# EAGLE library part PINHD_2X10_SMD_2.00 (library isb_connectors)
2x10-polige Stiftleiste, SMD, RM 2.00
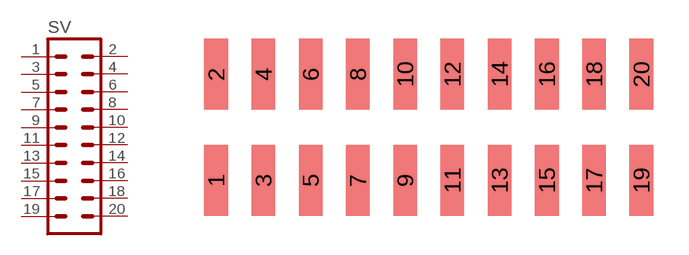
[diagram p4: symbol with the pads of SL_2X10G_SMD2.00; footprint SL_2X10G_SMD2.00]

Designator prefix SV

## PINHD_2X10_SMD_2.00  [SL_2X10G_SMD2.00]
1  1  pas
2  2  pas
3  3  pas
4  4  pas
5  5  pas
6  6  pas
7  7  pas
8  8  pas
9  9  pas
10  10  pas
11  11  pas
12  12  pas
13  13  pas
14  14  pas
15  15  pas
16  16  pas
17  17  pas
18  18  pas
19  19  pas
20  20  pas

## Footprint SL_2X10G_SMD2.00 (pad centres in mm)
smd 1 x 3: 1 -8,-2.25; 2 -8,2.25; 3 -6,-2.25; 4 -6,2.25; 5 -4,-2.25; 6 -4,2.25; 7 -2,-2.25; 8 -2,2.25; 9 0,-2.25; 10 0,2.25; 11 2,-2.25; 12 2,2.25; 13 4,-2.25; 14 4,2.25; 15 6,-2.25; 16 6,2.25; 17 8,-2.25; 18 8,2.25; 19 10,-2.25; 20 10,2.25